# Altium schematic symbol library BluePill.SchLib: 1 symbol
Pins are listed as number, name and electrical type; pins without a type are passive.

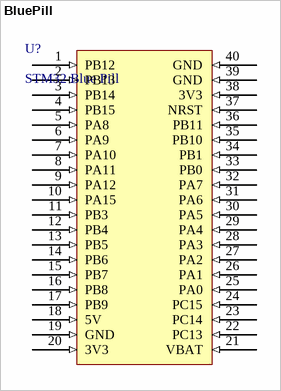
[diagram p0: symbol BluePill]

## BluePill
designator U?, comment STM32 Blue Pill
STM32F103 Blue Pill
pins: 1 PB12 (in), 2 PB13 (in), 3 PB14 (in), 4 PB15 (in), 5 PA8 (in), 6 PA9 (in), 7 PA10 (in), 8 PA11 (in), 9 PA12 (in), 10 PA15 (in), 11 PB3 (in), 12 PB4 (in), 13 PB5 (in), 14 PB6 (in), 15 PB7 (in), 16 PB8 (in), 17 PB9 (in), 18 5V (in), 19 GND (in), 20 3V3 (in), 21 VBAT (in), 22 PC13 (in), 23 PC14 (in), 24 PC15 (in), 25 PA0 (in), 26 PA1 (in), 27 PA2 (in), 28 PA3 (in), 29 PA4 (in), 30 PA5 (in), 31 PA6 (in), 32 PA7 (in), 33 PB0 (in), 34 PB1 (in), 35 PB10 (in), 36 PB11 (in), 37 NRST (in), 38 3V3 (in), 39 GND (in), 40 GND (in)